# EAGLE library part PIC12F6* (library microchip)
8-Pin FLASH-Based 8-Bit CMOS Microcontrollers Source: http://www.microchip.com .. 41190c.pdf
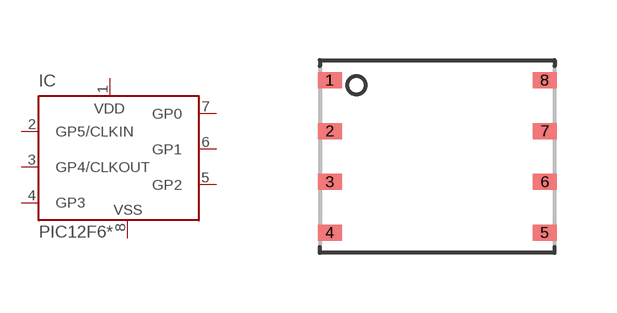
[diagram p17: symbol with the pads of DFN-S; footprint DFN-S]

Designator prefix IC

## PIC12F629, PIC12F675  [DFN-S]
1  VDD  pwr
2  GP5/CLKIN
3  GP4/CLKOUT
4  GP3  in
5  GP2
6  GP1
7  GP0
8  VSS  pwr

## Footprint DFN-S (pad centres in mm)
8-Lead Plastic Dual Flat No Lead Package (MF) 6x5 mm Body (DFN-S) Source: http://www.microchip.com .. 41190c.pdf
smd 0.6 x 0.4: 1 -2.69,1.905; 2 -2.69,0.635; 3 -2.69,-0.635; 4 -2.69,-1.905; 5 2.69,-1.905; 6 2.69,-0.635; 7 2.69,0.635; 8 2.69,1.905